# Altium footprint library DIP-24_600mil.PcbLib: 1 footprints
Each footprint in its own frame and in the unit in brackets; x right, y up, seen from the top. Pads: shape width x height; smd on the part's side, far side on the other; paste and mask are expansions set on the pad; w line width, h text height; cw(c..) or ccw(c..) is an arc to the next point about the centre after c.
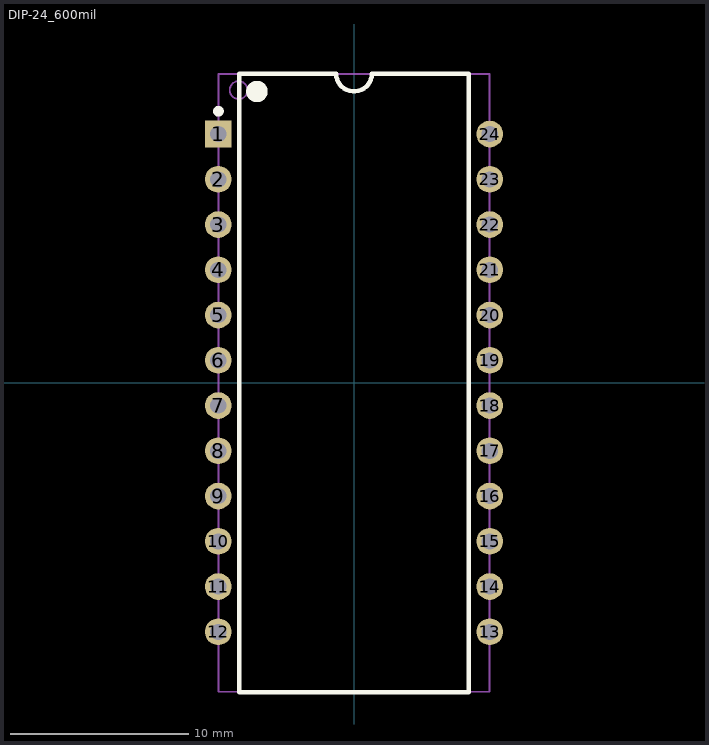
[diagram p0: the footprint, top view; thin cyan lines are the x and y axes]

## DIP-24_600mil [mm]
pads (24):
  rect 1.5x1.5 hole 0.9: 1(-7.62,13.97)
  round 1.5 hole 0.9: 2(-7.62,11.43) 3(-7.62,8.89) 4(-7.62,6.35) 5(-7.62,3.81) 6(-7.62,1.27) 7(-7.62,-1.27) 8(-7.62,-3.81) 9(-7.62,-6.35) 10(-7.62,-8.89) 11(-7.62,-11.43) 12(-7.62,-13.97) 13(7.62,-13.97) 14(7.62,-11.43) 15(7.62,-8.89) 16(7.62,-6.35) 17(7.62,-3.81) 18(7.62,-1.27) 19(7.62,1.27) 20(7.62,3.81) 21(7.62,6.35) 22(7.62,8.89) 23(7.62,11.43) 24(7.62,13.97)
Top Overlay:
  circle w0.6: c-5.45,16.36 r0.3
  circle w0.3: c-7.61,15.25 r0.15
  lines w0.254: -6.45,-17.36 -6.45,17.36 -1,17.36 ccw(c0,17.36) 1,17.36 6.45,17.36 6.45,-17.36 -6.45,-17.36
Mechanical 13:
  circle w0.1: c-6.475,16.435 r0.5
  lines w0.1: -7.6,-17.335 7.6,-17.335 7.6,17.335 -7.6,17.335 -7.6,-17.335